# Altium schematic symbol library 2019-11-30_21-18-30.SchLib: 2 symbols
Pins are listed as number, name and electrical type; pins without a type are passive.

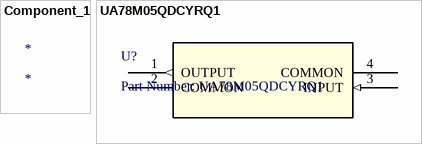
[diagram p0: symbols Component_1 to UA78M05QDCYRQ1]

## Component_1
designator *

## UA78M05QDCYRQ1
designator U?, comment Part Number: UA78M05QDCYRQ1
No Description Available; Vendor: Texas Instruments; Built_By: EMA_UL_Team; Manufacturer_Part_Number: UA78M05QDCYRQ1; Manufacturer: Texas Instruments; Copyright: Copyright (C) 2018 Accelerated Designs. All rights reserved; RefDes: RefDes; Type: DEV; Value: Value
footprint DCY4
pins: 1 OUTPUT (out), 2 COMMON, 3 INPUT (in), 4 COMMON